# Altium schematic symbol library Vishay.SchLib: 2 symbols
Pins are listed as number, name and electrical type; pins without a type are passive.

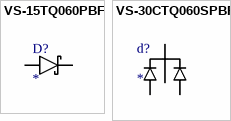
[diagram p0: symbols VS-15TQ060PBF to VS-30CTQ060SPBF]

## VS-15TQ060PBF
designator D?
TO-220AC Schottky Diode
footprint TO-220AC
pins: 1, 2

## VS-30CTQ060SPBF
designator d?
TO263-2 Schottky Rectifier
footprint TO-263-2
pins: 1 PAD (power), 2 PAD (power), 2 (power), 3 PAD (power)